# Altium schematic symbol library Voltage-Reference.SchLib: 3 symbols
Pins are listed as number, name and electrical type; pins without a type are passive.

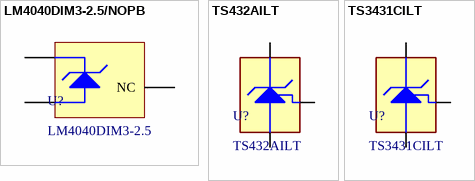
[diagram p0: symbols LM4040DIM3-2.5/NOPB to TS3431CILT]

## LM4040DIM3-2.5/NOPB
designator U?, comment LM4040DIM3-2.5
IC VREF SHUNT 1% SOT23-3; Manufacturer: TI National Semiconductor; Manufacturer Part Number: LM4040DIM3-2.5/NOPB; Package Body Material: Plastic; Throw Configuration: TWO TERMINAL VOLTAGE REFERENCE; Channels: 1; Max Output Voltage: 2.549V; Min Output Voltage: 2.451V; Nominal Output Voltage: 2.5V; Package Equivalence Code: TO-236; Supply Current-Max (Isup): 15mA; Temp Coef of Voltage-Max: 150ppm/°C; Trim/Adjustable Output: No; Qualification Status: Not Qualified; Supplier: Digikey; Supplier Part Number: LM4040DIM3-2.5/NOPBCT-ND; RoHS: Yes; Category: Voltage References; Stock: 12013; Pricing: 1=1, 10=0.623, 25=0.5224, 100=0.4082, 250=0.35208, 500=0.31768 (USD); Case/Package: TSOP; Pins: 3; Package Shape: Rectangular; Terminal Finish: Tin; Min Operating Temperature: -40°C; Max Operating Temperature: 85°C; JESD-609 Code: e3; JESD-30 Code: R-PDSO-G3; Moisture Sensitivity Level: 1; Number of Outputs: 1; Package Style: SMALL OUTLINE, THIN PROFILEMeter; Peak Reflow Temperature (Cel): 260°C; Surface Mount: Yes; Technology: BIPOLAR; Terminal Form: Gull Wing; Terminal Position: DUAL; Voltage Tolerance-Max: 1%; Length: 2.92mm; Width: 1.3mm; Height - Seated (Max): 1.12mm; Terminal Pitch: 0.95mm; Temperature Grade: INDUSTRIAL; Reach SVHC Compliant: Yes; RoHS Compliant: Yes; ComponentLink1URL: https://datasheet.ciiva.com:443/pdfs/VipMasterIC/IC/NATL/NATLS11883/NATLS11883-1.pdf?src-supplier=IHS+Markit; ComponentLink1Description: https://datasheet.ciiva.com:443/pdfs/VipMasterIC/IC/NATL/NATLS11883/NATLS11883-1.pdf?src-supplier=IHS+Markit; ComponentLink2URL: https://datasheet.ciiva.com/34301/887182-34301659.pdf?src-supplier=Jameco; ComponentLink2Description: https://datasheet.ciiva.com/34301/887182-34301659.pdf?src-supplier=Jameco; ComponentLink3URL: https://datasheet.ciiva.com/5689/8006-5689146.pdf?src-supplier=Farnell; ComponentLink3Description: https://datasheet.ciiva.com/5689/8006-5689146.pdf?src-supplier=Farnell; ComponentLink4URL: https://datasheet.ciiva.com/3235/lm4040-n-3235404.pdf?src-supplier=Avnet; ComponentLink4Description: https://datasheet.ciiva.com/3235/lm4040-n-3235404.pdf?src-supplier=Avnet; ComponentLink5URL: https://datasheet.ciiva.com/6598/lm4040-n-6598203.pdf?src-supplier=Digikey; ComponentLink5Description: https://datasheet.ciiva.com/6598/lm4040-n-6598203.pdf?src-supplier=Digikey; ComponentLink6URL: https://datasheet.ciiva.com/6598/lm4040-n-6598204.pdf?src-supplier=Digikey; ComponentLink6Description: https://datasheet.ciiva.com/6598/lm4040-n-6598204.pdf?src-supplier=Digikey; ComponentLink7URL: https://datasheet.ciiva.com/6598/lm4040-n-6598205.pdf?src-supplier=Digikey; ComponentLink7Description: https://datasheet.ciiva.com/6598/lm4040-n-6598205.pdf?src-supplier=Digikey; ComponentLink8URL: https://datasheet.ciiva.com/15148/getdatasheetpartid-115959-15148650.pdf?src-supplier=Verical; ComponentLink8Description: https://datasheet.ciiva.com/15148/getdatasheetpartid-115959-15148650.pdf?src-supplier=Verical
footprint SOT-23-3
pins: 1 CATHODE, 2 ANODE, 3 NC

## TS432AILT
designator U?
IC VREF SHUNT ADJ 0.5% SOT23-3; Manufacturer: STMicroelectronics; Cathode Current: 60µA; Max Supply Voltage: 12V; Max Output current: 12mA; Max Output Voltage: 1.246V; Min Output Voltage: 1.234V; Nominal Output Voltage: 1.24V; Number of Channels: 1; Output Type: Adjustable; Output Voltage: 10V; Reference Type: Adjustable, Shunt; Temperature Coefficient: 100ppm/°C; Supplier: DigiKey; Supplier Part Number: 497-TS432AILTCT-ND; Manufacturer Part Number: TS432AILT; RoHS: Compliant; Category: Voltage References; Stock: 8749; Pricing: 1=0.91, 10=0.653, 25=0.5884, 100=0.5175, 250=0.48372, 500=0.4633, 1000=0.44651 (USD); Accuracy: 0.5%; Case/Package: SOT-23-3; China RoHS: Compliant; Height - Seated (Max): 1.12mm; Length: 2.9mm; Lifecycle Status: Production; Max Operating Temperature: 85°C; Min Operating Temperature: -40°C; Mounting Technology: Surface Mount; Nominal Supply Current: 60µA; Number of Circuits: 1; Number of Outputs: 1; Pins: 3; Number of Terminals: 3; Packaging: Tape and Reel; Radiation Hardening: No; REACH SVHC: Yes; Reference Voltage: 1.24V; Schedule B: 8542390000, 8542390000|8542390000|8542390000|8542390000|8542390000; Terminal Pitch: 950µm; Tolerance: 0.5%; Width: 1.3mm; ComponentLink1URL: https://datasheet.octopart.com:443/TS432AILT-STMicroelectronics-datasheet-661248.pdf?src-supplier=Upverter; ComponentLink1Description: https://datasheet.octopart.com:443/TS432AILT-STMicroelectronics-datasheet-661248.pdf?src-supplier=Upverter; ComponentLink2URL: https://datasheet.octopart.com:443/TS432AILT-STMicroelectronics-datasheet-12515942.pdf?src-supplier=TME; ComponentLink2Description: https://datasheet.octopart.com:443/TS432AILT-STMicroelectronics-datasheet-12515942.pdf?src-supplier=TME; ComponentLink3URL: https://datasheet.octopart.com:443/TS432AILT-STMicroelectronics-datasheet-42551.pdf?src-supplier=Mouser; ComponentLink3Description: https://datasheet.octopart.com:443/TS432AILT-STMicroelectronics-datasheet-42551.pdf?src-supplier=Mouser
footprint SOT-23-3
pins: 1 REF, 2 CATHODE, 3 ANODE

## TS3431CILT
designator U?
IC VREF SHUNT ADJ 0.25% SOT23-3; Manufacturer: STMicroelectronics; Cathode Current: 400µA; Max Supply Voltage: 25V; Max Output current: 100mA; Max Output Voltage: 1.243V; Min Output Voltage: 1.237V; Min Supply Voltage: 1.24V; Number of Channels: 1; Output Voltage: 24V; Reference Type: Adjustable, Shunt; Temperature Coefficient: 100ppm/°C; Supplier: DigiKey; Supplier Part Number: 497-4637-1-ND; Manufacturer Part Number: TS3431CILT; RoHS: Compliant; Category: Voltage References; Stock: 16066; Pricing: 1=0.62, 10=0.44, 25=0.3944, 100=0.3441, 250=0.32016, 500=0.30574, 1000=0.29386 (USD); Case/Package: SOT-23; China RoHS: Compliant; Height: 1.02mm; Height - Seated (Max): 1.12mm; Lead Free: Lead Free; Length: 2.9mm; Lifecycle Status: Production; Max Operating Temperature: 125°C; Min Operating Temperature: -40°C; Mounting Technology: Surface Mount; Nominal Supply Voltage: 1.24V; Nominal Output Voltage: 1.24V; Nominal Supply Current: 400µA; Number of Circuits: 1; Number of Outputs: 1; Pins: 3; Number of Terminals: 3; Output Current: 100mA; Packaging: Tape and Reel; Radiation Hardening: No; REACH SVHC: Yes; Reference Voltage: 1.24V; Schedule B: 8542390000, 8542390000|8542390000|8542390000|8542390000|8542390000; Terminal Pitch: 950µm; Termination: SMD/SMT; Tolerance: 0.25%; Width: 1.3mm; ComponentLink1URL: https://datasheet.octopart.com:443/TS3431CILT-STMicroelectronics-datasheet-12523092.pdf?src-supplier=SHENGYU+ELECTRONICS; ComponentLink1Description: https://datasheet.octopart.com:443/TS3431CILT-STMicroelectronics-datasheet-12523092.pdf?src-supplier=SHENGYU+ELECTRONICS; ComponentLink2URL: https://datasheet.octopart.com:443/TS3431CILT-STMicroelectronics-datasheet-10408717.pdf?src-supplier=Upverter; ComponentLink2Description: https://datasheet.octopart.com:443/TS3431CILT-STMicroelectronics-datasheet-10408717.pdf?src-supplier=Upverter; ComponentLink3URL: https://datasheet.octopart.com:443/TS3431CILT-STMicroelectronics-datasheet-124172.pdf?src-supplier=Farnell; ComponentLink3Description: https://datasheet.octopart.com:443/TS3431CILT-STMicroelectronics-datasheet-124172.pdf?src-supplier=Farnell; ComponentLink4URL: https://datasheet.octopart.com:443/TS3431CILT-STMicroelectronics-datasheet-140368796.pdf?src-supplier=TME; ComponentLink4Description: https://datasheet.octopart.com:443/TS3431CILT-STMicroelectronics-datasheet-140368796.pdf?src-supplier=TME; ComponentLink5URL: https://datasheet.octopart.com:443/TS3431CILT-STMicroelectronics-datasheet-18487.pdf?src-supplier=DigiKey; ComponentLink5Description: https://datasheet.octopart.com:443/TS3431CILT-STMicroelectronics-datasheet-18487.pdf?src-supplier=DigiKey
footprint SOT-23-3
pins: 1 REF, 2 CATHODE, 3 ANODE